# EAGLE library part ORESAT-SOLARPANEL-12PIN (library oresat-connectors)
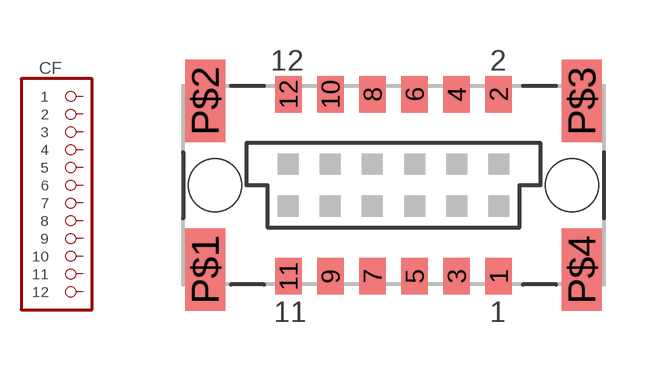
[diagram p1: symbol with the pads of CON-1.27-F-HARTING-1522012X601XXX; footprint CON-1.27-F-HARTING-1522012X601XXX]

Designator prefix CF

## ORESAT-SOLARPANEL-12PIN  [CON-1.27-F-HARTING-1522012X601XXX]
1  1  pas
2  2  pas
3  3  pas
4  4  pas
5  5  pas
6  6  pas
7  7  pas
8  8  pas
9  9  pas
10  10  pas
11  11  pas
12  12  pas

## Footprint CON-1.27-F-HARTING-1522012X601XXX (pad centres in mm)
smd 0.8 x 1.1: 1 3.175,-2.75; 2 3.175,2.75; 3 1.905,-2.75; 4 1.905,2.75; 5 0.635,-2.75; 6 0.635,2.75; 7 -0.635,-2.75; 8 -0.635,2.75; 9 -1.905,-2.75; 10 -1.905,2.75; 11 -3.175,-2.75; 12 -3.175,2.75
smd 1.2 x 2.5: P$1 -5.685,-2.55; P$2 -5.685,2.55; P$3 5.685,2.55; P$4 5.685,-2.55
hole 1.6 at -5.385,0
hole 1.6 at 5.385,0